# Altium schematic symbol library Double res.SchLib: 1 symbol
Pins are listed as number, name and electrical type; pins without a type are passive.

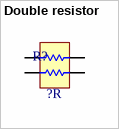
[diagram p0: symbol Double resistor]

## Double resistor
designator R?  value ?R  (hidden comment: *)
footprint CAT16-J2
pins: 1, 2, 3, 4